# EAGLE library part TOREXXCL220 (library 3.3V_Torex)
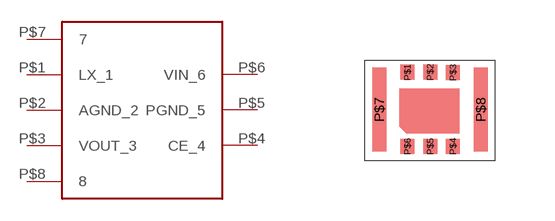
[diagram p0: symbol with the pads of CL-2025-02; footprint CL-2025-02]

Designator prefix -

## TOREXXCL220  [CL-2025-02]
P$1  LX_1
P$2  AGND_2
P$3  VOUT_3
P$4  CE_4
P$5  PGND_5
P$6  VIN_6  in
P$7  7
P$8  8

## Footprint CL-2025-02 (pad centres in mm)
smd 0.35 x 0.375: P$1 -0.57,0.93; P$2 0,0.93; P$3 0.57,0.92; P$4 0.57,-0.93; P$5 0,-0.93; P$6 -0.57,-0.93
smd 0.35 x 2.1: P$7 -1.27,0; P$8 1.27,0